# EAGLE library part ADUM1281 (library ic-AD)
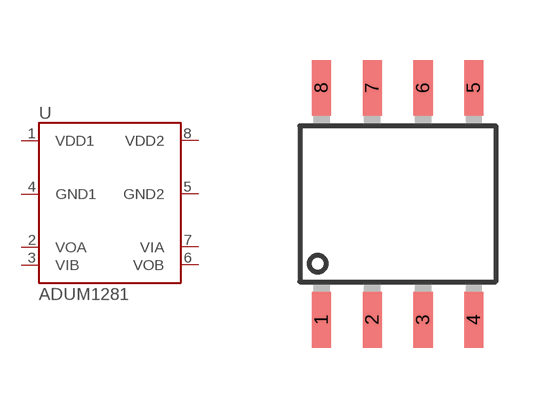
[diagram p7: symbol with the pads of SOP8; footprint SOP8]

Designator prefix U

## ADUM1281  [SOP8]
1  VDD1
2  VOA
3  VIB
4  GND1
5  GND2
6  VOB
7  VIA
8  VDD2

## Footprint SOP8 (pad centres in mm)
smd 0.48 x 1.4: 1 -1.905,-2.9; 2 -0.635,-2.9; 3 0.635,-2.9; 4 1.905,-2.9; 5 1.905,2.9; 6 0.635,2.9; 7 -0.635,2.9; 8 -1.905,2.9